# Altium schematic symbol library 2.2uH.SchLib: 1 symbol
Pins are listed as number, name and electrical type; pins without a type are passive.

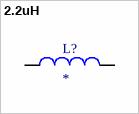
[diagram p0: symbol 2.2uH]

## 2.2uH
designator L?
2.2 ÂµH Shielded Drum Core, Wirewound Inductor 1.5 A 204mOhm Max 0805 (2012 Metric); MF: Murata Electronics; MP: 1285AS-H-2R2M=P2; SnapEDA_Link: https://www.snapeda.com/parts/1285AS-H-2R2M=P2/Murata/view-part/?ref=snap; Purchase-URL: https://pricing.snapeda.com/search/part/1285AS-H-2R2M=P2/?ref=eda; Availability: In Stock; Value: *; Check_prices: https://www.snapeda.com/parts/1285AS-H-2R2M=P2/Murata/view-part/?ref=eda; Package: 0806-2 Murata; Price: None
footprint 2.2uH
pins: 1, 2